# Altium footprint library edgy.PcbLib: 18 footprints (part 2 of 2)
Each footprint in its own frame and in the unit in brackets; x right, y up, seen from the top. Pads: shape width x height; smd on the part's side, far side on the other; paste and mask are expansions set on the pad; w line width, h text height; cw(c..) or ccw(c..) is an arc to the next point about the centre after c.
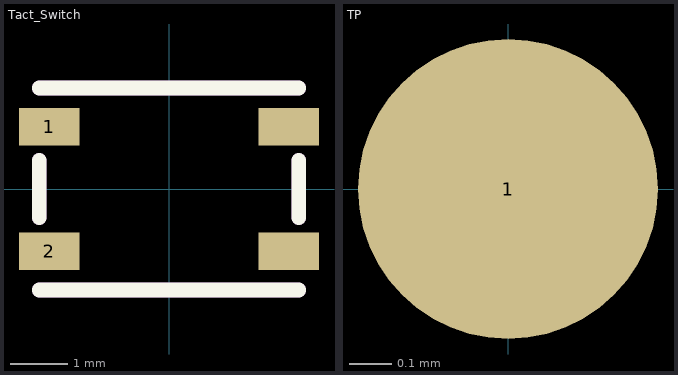
[diagram p1: the footprints below, top view; thin cyan lines are the x and y axes]

## Tact_Switch [mm]
pads (4):
  rect 1.05x0.65 smd: 1(-2.075,1.075) 2(-2.075,-1.075) ""(2.075,-1.075) ""(2.075,1.075)
Top Overlay:
  lines w0.254: -2.25,-1.75 2.25,-1.75 ; -2.25,-0.5 -2.25,0.5 ; -2.25,1.75 2.25,1.75 ; 2.25,-0.5 2.25,0.5
Mechanical 13:
  lines w0.254: -2.25,-1.75 2.25,-1.75 ; -2.25,-0.5 -2.25,0.5 ; -2.25,1.75 2.25,1.75 ; 2.25,-0.5 2.25,0.5
  text "'.Designator'" at 0,0 h0.6
3D body "tact_switch_K2-1808SN-A4SW.STEP": height 2.4, standoff 0, extent -2.55,-1.625 2.55,1.625

## TP [mm]
height 0.035
pads (1):
  round 0.7 smd: 1(0,0)